# EAGLE library part MC33186 (library mc33186)
Automotive H-Bridge Driver http://pdf.datasheetcatalog.com/datasheet2/4/08f5qu6pytays8c6t3k2jdidooyy.pdf
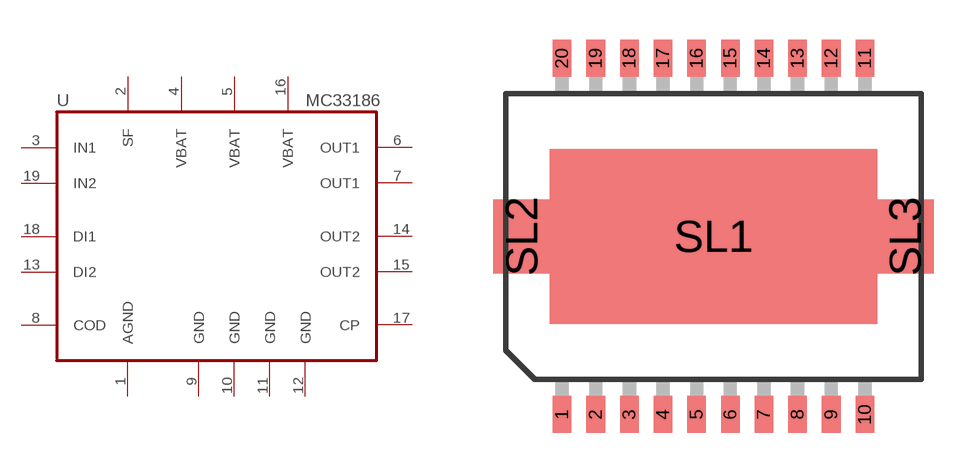
[diagram p0: symbol with the pads of HSOP; footprint HSOP]

Designator prefix -

## MC33186  [HSOP]
1  AGND  pwr
2  SF  out
3  IN1  in
4  VBAT  pwr
5  VBAT  pwr
6  OUT1  out
7  OUT1  out
8  COD  in
9  GND  pwr
10  GND  pwr
11  GND  pwr
12  GND  pwr
13  DI2  in
14  OUT2  out
15  OUT2  out
16  VBAT  pwr
17  CP  out
18  DI1  in
19  IN2  in

## Footprint HSOP (pad centres in mm)
Heatsink Small Outline Package (HSOP)
smd 0.7 x 1.4: 1 -5.715,-6.731; 2 -4.445,-6.731; 3 -3.175,-6.731; 4 -1.905,-6.731; 5 -0.635,-6.731; 6 0.635,-6.731; 7 1.905,-6.731; 8 3.175,-6.731; 9 4.445,-6.731; 10 5.715,-6.731; 11 5.715,6.731; 12 4.445,6.731; 13 3.175,6.731; 14 1.905,6.731; 15 0.635,6.731; 16 -0.635,6.731; 17 -1.905,6.731; 18 -3.175,6.731; 19 -4.445,6.731; 20 -5.715,6.731
smd 12.35 x 6.6: SL1 0,0
smd 2.15 x 2.8: SL2 -7.239,0; SL3 7.239,0